# Altium schematic symbol library LT8311.SchLib: 1 symbol
Pins are listed as number, name and electrical type; pins without a type are passive.

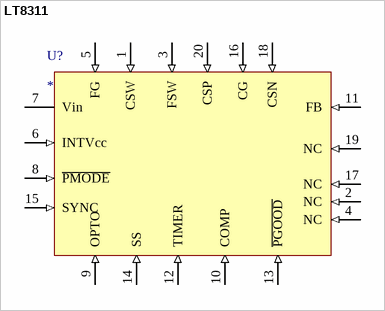
[diagram p0: symbol LT8311]

## LT8311
designator U?
pins: 1 CSW (in), 2 NC (in), 3 FSW (in), 4 NC (in), 5 FG (in), 6 INTVcc (in), 7 Vin (power), 8 ~{PMODE} (in), 9 OPTO (in), 10 COMP (in), 11 FB (in), 12 TIMER (in), 13 ~{PGOOD} (in), 14 SS (in), 15 SYNC (in), 16 CG (in), 17 NC (in), 18 CSN (in), 19 NC (in), 20 CSP (in)